# EAGLE library part LTV-827S (library rStep)
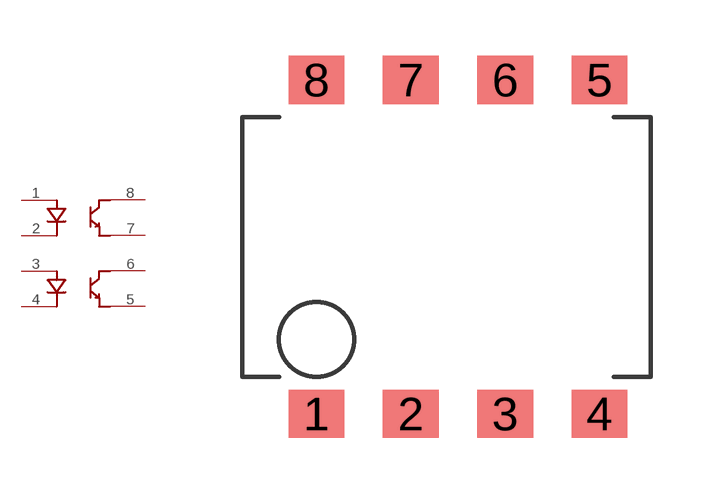
[diagram p5: symbol with the pads of ISOLATOR_8PIN; footprint ISOLATOR_8PIN]

Designator prefix -; gates G$1=OPTOISOLATOR G$2=OPTOISOLATOR

## LTV-827S  [ISOLATOR_8PIN]
1  G$1:A
2  G$1:K
3  G$2:A
4  G$2:K
5  G$2:E
6  G$2:C
7  G$1:E
8  G$1:C

## Footprint ISOLATOR_8PIN (pad centres in mm)
smd 1.5 x 1.3: 1 0,-9; 2 2.54,-9; 3 5.08,-9; 4 7.62,-9; 5 7.62,0; 6 5.08,0; 7 2.54,0; 8 0,0